# EAGLE library part ARDUINO_MINI_PRO (library E14_Arduino_published)
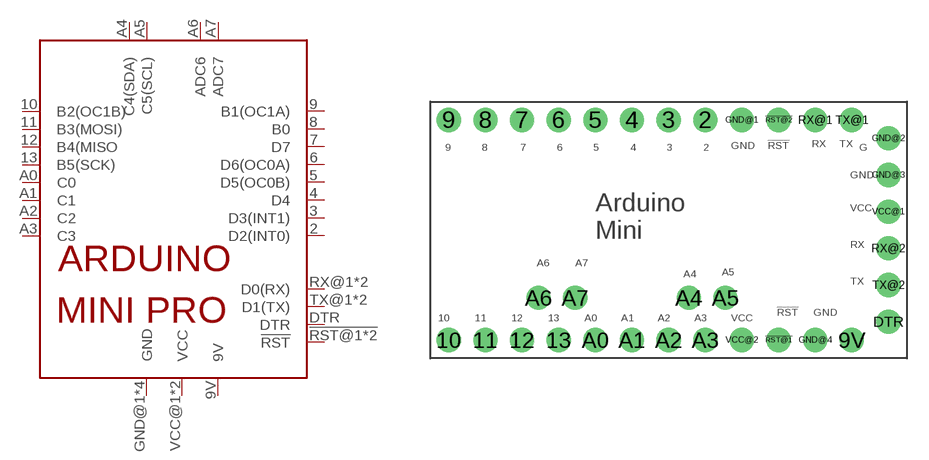
[diagram p9: symbol with the pads of ARDUINO_MINI_PRO; footprint ARDUINO_MINI_PRO]

Designator prefix -

## ARDUINO_MINI_PRO  [ARDUINO_MINI_PRO]
2  D2(INT0)
3  D3(INT1)
4  D4
5  D5(OC0B)
6  D6(OC0A)
7  D7
8  B0
9  B1(OC1A)
9V  9V
10  B2(OC1B)
11  B3(MOSI)
12  B4(MISO
13  B5(SCK)
!RST@1  !RST
!RST@2  !RST
A0  C0
A1  C1
A2  C2
A3  C3
A4  C4(SDA)
A5  C5(SCL)
A6  ADC6
A7  ADC7
DTR  DTR
GND@1  GND
GND@2  GND
GND@3  GND
GND@4  GND
RX@1  D0(RX)
RX@2  D0(RX)
TX@1  D1(TX)
TX@2  D1(TX)
VCC@1  VCC
VCC@2  VCC

## Footprint ARDUINO_MINI_PRO (pad centres in mm)
drill 1.016 pad 1.676: 2 19.05,16.51; 3 16.51,16.51; 4 13.97,16.51; 5 11.43,16.51; 6 8.89,16.51; 7 6.35,16.51; 8 3.81,16.51; 9 1.27,16.51; 9V 29.21,1.27; 10 1.27,1.27; 11 3.81,1.27; 12 6.35,1.27; 13 8.89,1.27; !RST@1 24.13,1.27; !RST@2 24.13,16.51; A0 11.43,1.27; A1 13.97,1.27; A2 16.51,1.27; A3 19.05,1.27; A4 17.907,4.191; A5 20.447,4.191; A6 7.493,4.191; A7 10.033,4.191; DTR 31.75,2.54; GND@1 21.59,16.51; GND@2 31.75,15.24; GND@3 31.75,12.7; GND@4 26.67,1.27; RX@1 26.67,16.51; RX@2 31.75,7.62; TX@1 29.21,16.51; TX@2 31.75,5.08; VCC@1 31.75,10.16; VCC@2 21.59,1.27